# Altium schematic symbol library Maxim Amplifiers and Comparators.SchLib: 420 symbols (part 6 of 16)
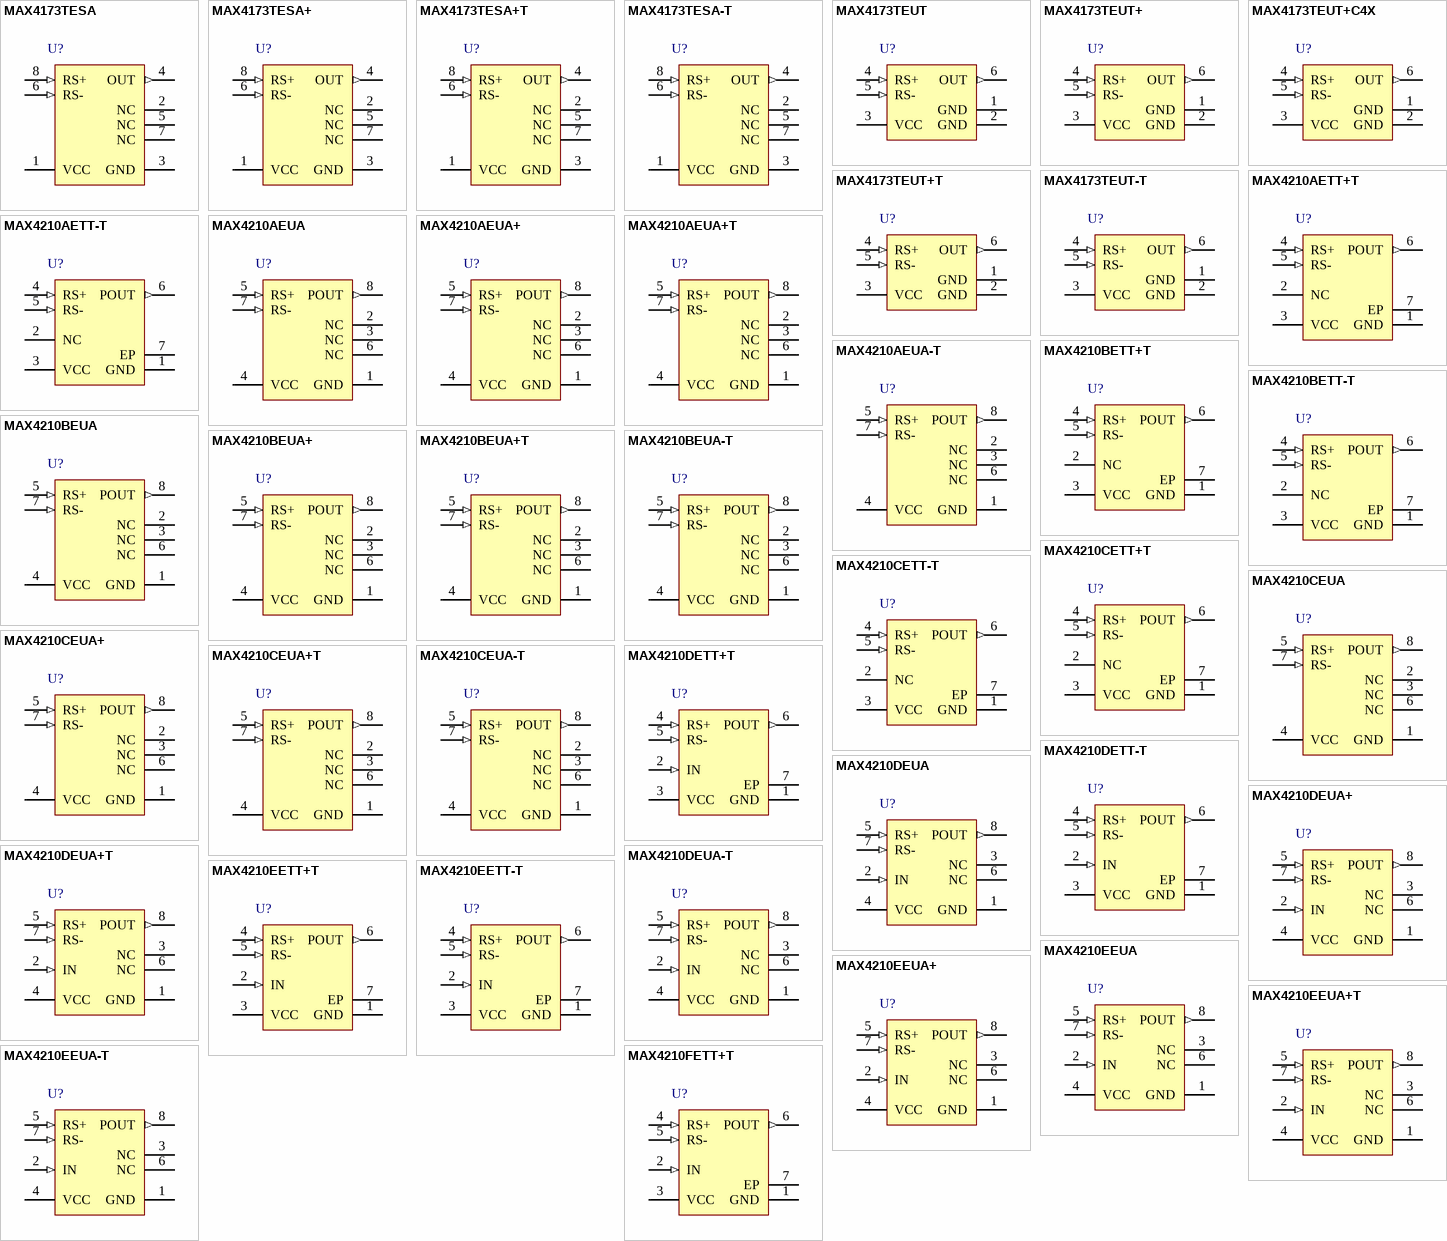
[diagram p15: symbols MAX4173TESA to MAX4210FETT+T]

## MAX4210AETT+T
designator U?
High-Side, Power + Current Monitor, 16.67 V / V Gain, -40 to 85 degC, 6-Pin SON (T633+2), Pb-Free, Tape and Reel; PartNumber: MAX4210AETT+T; Bi-Dir. Curr. Sense: No; Gain: 16.67 V/V, 25 V/V ,40.96 V/V; DatasheetVersion: Rev. 1; PackageVersion: Rev. J, 08/2009; PackageReference: T633+2; PackageDescription: 6-Pin Plastic Very Very Thin Dual Flatpack No Leads, Exposed Pad, Body 3 x 3 mm, Exposed Pad 2.3 x 1.5 mm, Pitch 0.95 mm; Supplier 1: Digi-Key; Supplier Part Number 1: MAX4210AETT+T-ND; Supplier 2: Mouser; Supplier Part Number 2: 700-MAX4210AETTT; Mounting Technology: Surface Mount; Code_JEDEC: MO-229; ComponentLink1Description: Manufacturer URL; ComponentLink1URL: http://www.maximintegrated.com/; ComponentLink2Description: Datasheet; ComponentLink2URL: http://datasheets.maximintegrated.com/en/ds/MAX4210-MAX4211.pdf; ComponentLink3Description: Package Specification; ComponentLink3URL: http://pdfserv.maximintegrated.com/package_dwgs/21-0137.PDF
footprint MAXM-T633+2_V (SON, 6-Leads, Body 3x3mm, Pitch 0.95mm, Thermal Pad 2.3X1.5mm)
pins: 1 GND (power) "Ground", 2 NC "No Connection. Not internally connected.", 3 VCC (power) "Power-Supply Voltage. Connect a 0.1uF bypass capacitor from VCC to GND.", 4 RS+ (in) "Power Connection to External-Sense Resistor and Internal Resistor-Divider", 5 RS- (in) "Load-Side Connection for External-Sense Resistor", 6 POUT (out) "Power Output Voltage. Voltage output proportional to source power (input voltage multiplied by load current).", 7 EP (power) "Exposed Paddle. EP is internally connected to GND."

## MAX4210AETT-T
designator U?
High-Side, Power + Current Monitor, 16.67 V / V Gain, -40 to 85 degC, 6-Pin SON (T633-2), Tape and Reel; PartNumber: MAX4210AETT-T; Bi-Dir. Curr. Sense: No; Gain: 16.67 V/V, 25 V/V ,40.96 V/V; DatasheetVersion: Rev. 1; PackageVersion: Rev. J, 08/2009; PackageReference: T633-2; PackageDescription: 6-Pin Plastic Very Very Thin Dual Flatpack No Leads, Exposed Pad, Body 3 x 3 mm, Exposed Pad 2.3 x 1.5 mm, Pitch 0.95 mm; Supplier 1: Digi-Key; Supplier Part Number 1: MAX4210AETT-T-ND; Supplier 2: Mouser; Supplier Part Number 2: 700-MAX4210AETT-T-NR; Mounting Technology: Surface Mount; Code_JEDEC: MO-229; ComponentLink1Description: Manufacturer URL; ComponentLink1URL: http://www.maximintegrated.com/; ComponentLink2Description: Datasheet; ComponentLink2URL: http://datasheets.maximintegrated.com/en/ds/MAX4210-MAX4211.pdf; ComponentLink3Description: Package Specification; ComponentLink3URL: http://pdfserv.maximintegrated.com/package_dwgs/21-0137.PDF
footprint MAXM-T633-2_V (SON, 6-Leads, Body 3x3mm, Pitch 0.95mm, Thermal Pad 1.5x2.3mm)
pins: 1 GND (power) "Ground", 2 NC "No Connection. Not internally connected.", 3 VCC (power) "Power-Supply Voltage. Connect a 0.1uF bypass capacitor from VCC to GND.", 4 RS+ (in) "Power Connection to External-Sense Resistor and Internal Resistor-Divider", 5 RS- (in) "Load-Side Connection for External-Sense Resistor", 6 POUT (out) "Power Output Voltage. Voltage output proportional to source power (input voltage multiplied by load current).", 7 EP (power) "Exposed Paddle. EP is internally connected to GND."

## MAX4210AEUA
designator U?
High-Side, Power + Current Monitor, 16.67 V / V Gain, -40 to 85 degC, 8-Pin SOP (U8-1); PartNumber: MAX4210AEUA; Bi-Dir. Curr. Sense: No; Gain: 16.67 V/V, 25 V/V ,40.96 V/V; DatasheetVersion: Rev. 1; PackageVersion: Rev. L, 08/2009; PackageReference: U8-1; PackageDescription: 8-Pin Micro-MAX, Thin Shrink Small-Outline (U8-1), Body 3 x 3 mm, Pitch 0.65mm; Supplier 1: Digi-Key; Supplier Part Number 1: MAX4210AEUA-ND; Supplier 2: Mouser; Supplier Part Number 2: 700-MAX4210AEUA-NR; Mounting Technology: Surface Mount; Code_JEDEC: MO-187; ComponentLink1Description: Manufacturer URL; ComponentLink1URL: http://www.maximintegrated.com/; ComponentLink2Description: Datasheet; ComponentLink2URL: http://datasheets.maximintegrated.com/en/ds/MAX4210-MAX4211.pdf; ComponentLink3Description: Package Specification; ComponentLink3URL: http://pdfserv.maximintegrated.com/package_dwgs/21-0036.PDF
footprint MAXM-U8-1_N (SOP, 8-Leads, Body 3x3mm, Pitch 0.65mm, IPC Medium Density)
footprint MAXM-U8-1_L (SOP, 8-Leads, Body 3x3mm, Pitch 0.65mm, IPC High Density)
footprint MAXM-U8-1_M (SOP, 8-Leads, Body 3x3mm, Pitch 0.65mm, IPC Low Density)
pins: 1 GND (power) "Ground", 2 NC "No Connection. Not internally connected.", 3 NC "No Connection. Not internally connected.", 4 VCC (power) "Power-Supply Voltage. Connect a 0.1uF bypass capacitor from VCC to GND", 5 RS+ (in) "Power Connection to External-Sense Resistor and Internal Resistor-Divider", 6 NC "No Connection. Not internally connected.", 7 RS- (in) "Load-Side Connection for External-Sense Resistor", 8 POUT (out) "Power Output Voltage. Voltage output proportional to source power (input voltage multiplied by load current)."

## MAX4210AEUA+
designator U?
High-Side, Power + Current Monitor, 16.67 V / V Gain, -40 to 85 degC, 8-Pin SOP (U8+1), Pb-Free; PartNumber: MAX4210AEUA+; Bi-Dir. Curr. Sense: No; Gain: 16.67 V/V, 25 V/V ,40.96 V/V; DatasheetVersion: Rev. 1; PackageVersion: Rev. L, 08/2009; PackageReference: U8+1; PackageDescription: 8-Pin Micro-MAX, Thin Shrink Small-Outline (U8+1), Body 3 x 3 mm, Pitch 0.65 mm; Supplier 1: Digi-Key; Supplier Part Number 1: MAX4210AEUA+-ND; Supplier 2: Mouser; Supplier Part Number 2: 700-MAX4210AEUA; Mounting Technology: Surface Mount; Code_JEDEC: MO-187; ComponentLink1Description: Manufacturer URL; ComponentLink1URL: http://www.maximintegrated.com/; ComponentLink2Description: Datasheet; ComponentLink2URL: http://datasheets.maximintegrated.com/en/ds/MAX4210-MAX4211.pdf; ComponentLink3Description: Package Specification; ComponentLink3URL: http://pdfserv.maximintegrated.com/package_dwgs/21-0036.PDF
footprint MAXM-U8+1_N (SOP, 8-Leads, Body 3x3mm, Pitch 0.65mm, IPC Medium Density)
footprint MAXM-U8+1_L (SOP, 8-Leads, Body 3x3mm, Pitch 0.65mm, IPC High Density)
footprint MAXM-U8+1_M (SOP, 8-Leads, Body 3x3mm, Pitch 0.65mm, IPC Low Density)
pins: 1 GND (power) "Ground", 2 NC "No Connection. Not internally connected.", 3 NC "No Connection. Not internally connected.", 4 VCC (power) "Power-Supply Voltage. Connect a 0.1uF bypass capacitor from VCC to GND", 5 RS+ (in) "Power Connection to External-Sense Resistor and Internal Resistor-Divider", 6 NC "No Connection. Not internally connected.", 7 RS- (in) "Load-Side Connection for External-Sense Resistor", 8 POUT (out) "Power Output Voltage. Voltage output proportional to source power (input voltage multiplied by load current)."

## MAX4210AEUA+T
designator U?
High-Side, Power + Current Monitor, 16.67 V / V Gain, -40 to 85 degC, 8-Pin SOP (U8+1), Pb-Free, Tape and Reel; PartNumber: MAX4210AEUA+T; Bi-Dir. Curr. Sense: No; Gain: 16.67 V/V, 25 V/V ,40.96 V/V; DatasheetVersion: Rev. 1; PackageVersion: Rev. L, 08/2009; PackageReference: U8+1; PackageDescription: 8-Pin Micro-MAX, Thin Shrink Small-Outline (U8+1), Body 3 x 3 mm, Pitch 0.65 mm; Supplier 1: Digi-Key; Supplier Part Number 1: MAX4210AEUA+T-ND; Supplier 2: Mouser; Supplier Part Number 2: 700-MAX4210AEUAT; Mounting Technology: Surface Mount; Code_JEDEC: MO-187; ComponentLink1Description: Manufacturer URL; ComponentLink1URL: http://www.maximintegrated.com/; ComponentLink2Description: Datasheet; ComponentLink2URL: http://datasheets.maximintegrated.com/en/ds/MAX4210-MAX4211.pdf; ComponentLink3Description: Package Specification; ComponentLink3URL: http://pdfserv.maximintegrated.com/package_dwgs/21-0036.PDF
footprint MAXM-U8+1_N (SOP, 8-Leads, Body 3x3mm, Pitch 0.65mm, IPC Medium Density)
footprint MAXM-U8+1_L (SOP, 8-Leads, Body 3x3mm, Pitch 0.65mm, IPC High Density)
footprint MAXM-U8+1_M (SOP, 8-Leads, Body 3x3mm, Pitch 0.65mm, IPC Low Density)
pins: 1 GND (power) "Ground", 2 NC "No Connection. Not internally connected.", 3 NC "No Connection. Not internally connected.", 4 VCC (power) "Power-Supply Voltage. Connect a 0.1uF bypass capacitor from VCC to GND", 5 RS+ (in) "Power Connection to External-Sense Resistor and Internal Resistor-Divider", 6 NC "No Connection. Not internally connected.", 7 RS- (in) "Load-Side Connection for External-Sense Resistor", 8 POUT (out) "Power Output Voltage. Voltage output proportional to source power (input voltage multiplied by load current)."

## MAX4210AEUA-T
designator U?
High-Side, Power + Current Monitor, 16.67 V / V Gain, -40 to 85 degC, 8-Pin SOP (U8-1), Tape and Reel; Generic Part Number: MAX4210; PartNumber: MAX4210AEUA-T; Bi-Dir. Curr. Sense: No; Gain: 16.67 V/V, 25 V/V ,40.96 V/V; DatasheetVersion: Rev. 1; PackageVersion: Rev. L, 08/2009; PackageReference: U8-1; PackageDescription: 8-Pin Micro-MAX, Thin Shrink Small-Outline (U8-1), Body 3 x 3 mm, Pitch 0.65mm; Supplier 1: Digi-Key; Supplier Part Number 1: MAX4210AEUA-T-ND; Supplier 2: Mouser; Supplier Part Number 2: 700-MAX4210AEUA-T-NR; Packing: Tape and Reel; Mounting Technology: Surface Mount; Code_JEDEC: MO-187; ComponentLink1Description: Manufacturer URL; ComponentLink1URL: http://www.maximintegrated.com/; ComponentLink2Description: Datasheet; ComponentLink2URL: http://datasheets.maximintegrated.com/en/ds/MAX4210-MAX4211.pdf; ComponentLink3Description: Package Specification; ComponentLink3URL: http://pdfserv.maximintegrated.com/package_dwgs/21-0036.PDF
footprint MAXM-U8-1_N (SOP, 8-Leads, Body 3x3mm, Pitch 0.65mm, IPC Medium Density)
footprint MAXM-U8-1_L (SOP, 8-Leads, Body 3x3mm, Pitch 0.65mm, IPC High Density)
footprint MAXM-U8-1_M (SOP, 8-Leads, Body 3x3mm, Pitch 0.65mm, IPC Low Density)
pins: 1 GND (power) "Ground", 2 NC "No Connection. Not internally connected.", 3 NC "No Connection. Not internally connected.", 4 VCC (power) "Power-Supply Voltage. Connect a 0.1uF bypass capacitor from VCC to GND", 5 RS+ (in) "Power Connection to External-Sense Resistor and Internal Resistor-Divider", 6 NC "No Connection. Not internally connected.", 7 RS- (in) "Load-Side Connection for External-Sense Resistor", 8 POUT (out) "Power Output Voltage. Voltage output proportional to source power (input voltage multiplied by load current)."

## MAX4210BETT+T
designator U?
High-Side, Power + Current Monitor, 25 V / V Gain, -40 to 85 degC, 6-Pin SON (T633+2), Pb-Free, Tape and Reel; Generic Part Number: MAX4210; PartNumber: MAX4210BETT+T; Bi-Dir. Curr. Sense: No; Gain: 16.67 V/V, 25 V/V ,40.96 V/V; DatasheetVersion: Rev. 1; PackageVersion: Rev. J, 08/2009; PackageReference: T633+2; PackageDescription: 6-Pin Plastic Very Very Thin Dual Flatpack No Leads, Exposed Pad, Body 3 x 3 mm, Exposed Pad 2.3 x 1.5 mm, Pitch 0.95 mm; Supplier 1: Digi-Key; Supplier Part Number 1: MAX4210BETT+T-ND; Supplier 2: Mouser; Supplier Part Number 2: 700-MAX4210BETTT; Packing: Tape and Reel; RoHS: Pb-Free; Mounting Technology: Surface Mount; Code_JEDEC: MO-229; ComponentLink1Description: Manufacturer URL; ComponentLink1URL: http://www.maximintegrated.com/; ComponentLink2Description: Datasheet; ComponentLink2URL: http://datasheets.maximintegrated.com/en/ds/MAX4210-MAX4211.pdf; ComponentLink3Description: Package Specification; ComponentLink3URL: http://pdfserv.maximintegrated.com/package_dwgs/21-0137.PDF
footprint MAXM-T633+2_V (SON, 6-Leads, Body 3x3mm, Pitch 0.95mm, Thermal Pad 2.3X1.5mm)
pins: 1 GND (power) "Ground", 2 NC "No Connection. Not internally connected.", 3 VCC (power) "Power-Supply Voltage. Connect a 0.1uF bypass capacitor from VCC to GND.", 4 RS+ (in) "Power Connection to External-Sense Resistor and Internal Resistor-Divider", 5 RS- (in) "Load-Side Connection for External-Sense Resistor", 6 POUT (out) "Power Output Voltage. Voltage output proportional to source power (input voltage multiplied by load current).", 7 EP (power) "Exposed Paddle. EP is internally connected to GND."

## MAX4210BETT-T
designator U?
High-Side, Power + Current Monitor, 25 V / V Gain, -40 to 85 degC, 6-Pin SON (T633-2), Tape and Reel; Generic Part Number: MAX4210; PartNumber: MAX4210BETT-T; Bi-Dir. Curr. Sense: No; Gain: 16.67 V/V, 25 V/V ,40.96 V/V; DatasheetVersion: Rev. 1; PackageVersion: Rev. J, 08/2009; PackageReference: T633-2; PackageDescription: 6-Pin Plastic Very Very Thin Dual Flatpack No Leads, Exposed Pad, Body 3 x 3 mm, Exposed Pad 2.3 x 1.5 mm, Pitch 0.95 mm; Supplier 1: Digi-Key; Supplier Part Number 1: MAX4210BETT-T-ND; Supplier 2: Mouser; Supplier Part Number 2: 700-MAX4210BETT-T-NR; Packing: Tape and Reel; Mounting Technology: Surface Mount; Code_JEDEC: MO-229; ComponentLink1Description: Manufacturer URL; ComponentLink1URL: http://www.maximintegrated.com/; ComponentLink2Description: Datasheet; ComponentLink2URL: http://datasheets.maximintegrated.com/en/ds/MAX4210-MAX4211.pdf; ComponentLink3Description: Package Specification; ComponentLink3URL: http://pdfserv.maximintegrated.com/package_dwgs/21-0137.PDF
footprint MAXM-T633-2_V (SON, 6-Leads, Body 3x3mm, Pitch 0.95mm, Thermal Pad 1.5x2.3mm)
pins: 1 GND (power) "Ground", 2 NC "No Connection. Not internally connected.", 3 VCC (power) "Power-Supply Voltage. Connect a 0.1uF bypass capacitor from VCC to GND.", 4 RS+ (in) "Power Connection to External-Sense Resistor and Internal Resistor-Divider", 5 RS- (in) "Load-Side Connection for External-Sense Resistor", 6 POUT (out) "Power Output Voltage. Voltage output proportional to source power (input voltage multiplied by load current).", 7 EP (power) "Exposed Paddle. EP is internally connected to GND."

## MAX4210BEUA
designator U?
High-Side, Power + Current Monitor, 25 V / V Gain, -40 to 85 degC, 8-Pin SOP (U8-1); Generic Part Number: MAX4210; PartNumber: MAX4210BEUA; Bi-Dir. Curr. Sense: No; Gain: 16.67 V/V, 25 V/V ,40.96 V/V; DatasheetVersion: Rev. 1; PackageVersion: Rev. L, 08/2009; PackageReference: U8-1; PackageDescription: 8-Pin Micro-MAX, Thin Shrink Small-Outline (U8-1), Body 3 x 3 mm, Pitch 0.65mm; Supplier 1: Digi-Key; Supplier Part Number 1: MAX4210BEUA-ND; Supplier 2: Mouser; Supplier Part Number 2: 700-MAX4210BEUA-NR; Mounting Technology: Surface Mount; Code_JEDEC: MO-187; ComponentLink1Description: Manufacturer URL; ComponentLink1URL: http://www.maximintegrated.com/; ComponentLink2Description: Datasheet; ComponentLink2URL: http://datasheets.maximintegrated.com/en/ds/MAX4210-MAX4211.pdf; ComponentLink3Description: Package Specification; ComponentLink3URL: http://pdfserv.maximintegrated.com/package_dwgs/21-0036.PDF
footprint MAXM-U8-1_N (SOP, 8-Leads, Body 3x3mm, Pitch 0.65mm, IPC Medium Density)
footprint MAXM-U8-1_L (SOP, 8-Leads, Body 3x3mm, Pitch 0.65mm, IPC High Density)
footprint MAXM-U8-1_M (SOP, 8-Leads, Body 3x3mm, Pitch 0.65mm, IPC Low Density)
pins: 1 GND (power) "Ground", 2 NC "No Connection. Not internally connected.", 3 NC "No Connection. Not internally connected.", 4 VCC (power) "Power-Supply Voltage. Connect a 0.1uF bypass capacitor from VCC to GND", 5 RS+ (in) "Power Connection to External-Sense Resistor and Internal Resistor-Divider", 6 NC "No Connection. Not internally connected.", 7 RS- (in) "Load-Side Connection for External-Sense Resistor", 8 POUT (out) "Power Output Voltage. Voltage output proportional to source power (input voltage multiplied by load current)."

## MAX4210BEUA+
designator U?
High-Side, Power + Current Monitor, 25 V / V Gain, -40 to 85 degC, 8-Pin SOP (U8+1), Pb-Free; Generic Part Number: MAX4210; PartNumber: MAX4210BEUA+; Bi-Dir. Curr. Sense: No; Gain: 16.67 V/V, 25 V/V ,40.96 V/V; DatasheetVersion: Rev. 1; PackageVersion: Rev. L, 08/2009; PackageReference: U8+1; PackageDescription: 8-Pin Micro-MAX, Thin Shrink Small-Outline (U8+1), Body 3 x 3 mm, Pitch 0.65 mm; Supplier 1: Digi-Key; Supplier Part Number 1: MAX4210BEUA+-ND; Supplier 2: Mouser; Supplier Part Number 2: 700-MAX4210BEUA; RoHS: Pb-Free; Mounting Technology: Surface Mount; Code_JEDEC: MO-187; ComponentLink1Description: Manufacturer URL; ComponentLink1URL: http://www.maximintegrated.com/; ComponentLink2Description: Datasheet; ComponentLink2URL: http://datasheets.maximintegrated.com/en/ds/MAX4210-MAX4211.pdf; ComponentLink3Description: Package Specification; ComponentLink3URL: http://pdfserv.maximintegrated.com/package_dwgs/21-0036.PDF
footprint MAXM-U8+1_N (SOP, 8-Leads, Body 3x3mm, Pitch 0.65mm, IPC Medium Density)
footprint MAXM-U8+1_L (SOP, 8-Leads, Body 3x3mm, Pitch 0.65mm, IPC High Density)
footprint MAXM-U8+1_M (SOP, 8-Leads, Body 3x3mm, Pitch 0.65mm, IPC Low Density)
pins: 1 GND (power) "Ground", 2 NC "No Connection. Not internally connected.", 3 NC "No Connection. Not internally connected.", 4 VCC (power) "Power-Supply Voltage. Connect a 0.1uF bypass capacitor from VCC to GND", 5 RS+ (in) "Power Connection to External-Sense Resistor and Internal Resistor-Divider", 6 NC "No Connection. Not internally connected.", 7 RS- (in) "Load-Side Connection for External-Sense Resistor", 8 POUT (out) "Power Output Voltage. Voltage output proportional to source power (input voltage multiplied by load current)."

## MAX4210BEUA+T
designator U?
High-Side, Power + Current Monitor, 25 V / V Gain, -40 to 85 degC, 8-Pin SOP (U8+1), Pb-Free, Tape and Reel; Generic Part Number: MAX4210; PartNumber: MAX4210BEUA+T; Bi-Dir. Curr. Sense: No; Gain: 16.67 V/V, 25 V/V ,40.96 V/V; DatasheetVersion: Rev. 1; PackageVersion: Rev. L, 08/2009; PackageReference: U8+1; PackageDescription: 8-Pin Micro-MAX, Thin Shrink Small-Outline (U8+1), Body 3 x 3 mm, Pitch 0.65 mm; Supplier 1: Digi-Key; Supplier Part Number 1: MAX4210BEUA+T-ND; Supplier 2: Mouser; Supplier Part Number 2: 700-MAX4210BEUAT; Packing: Tape and Reel; RoHS: Pb-Free; Mounting Technology: Surface Mount; Code_JEDEC: MO-187; ComponentLink1Description: Manufacturer URL; ComponentLink1URL: http://www.maximintegrated.com/; ComponentLink2Description: Datasheet; ComponentLink2URL: http://datasheets.maximintegrated.com/en/ds/MAX4210-MAX4211.pdf; ComponentLink3Description: Package Specification; ComponentLink3URL: http://pdfserv.maximintegrated.com/package_dwgs/21-0036.PDF
footprint MAXM-U8+1_N (SOP, 8-Leads, Body 3x3mm, Pitch 0.65mm, IPC Medium Density)
footprint MAXM-U8+1_L (SOP, 8-Leads, Body 3x3mm, Pitch 0.65mm, IPC High Density)
footprint MAXM-U8+1_M (SOP, 8-Leads, Body 3x3mm, Pitch 0.65mm, IPC Low Density)
pins: 1 GND (power) "Ground", 2 NC "No Connection. Not internally connected.", 3 NC "No Connection. Not internally connected.", 4 VCC (power) "Power-Supply Voltage. Connect a 0.1uF bypass capacitor from VCC to GND", 5 RS+ (in) "Power Connection to External-Sense Resistor and Internal Resistor-Divider", 6 NC "No Connection. Not internally connected.", 7 RS- (in) "Load-Side Connection for External-Sense Resistor", 8 POUT (out) "Power Output Voltage. Voltage output proportional to source power (input voltage multiplied by load current)."

## MAX4210BEUA-T
designator U?
High-Side, Power + Current Monitor, 25 V / V Gain, -40 to 85 degC, 8-Pin SOP (U8-1), Tape and Reel; Generic Part Number: MAX4210; PartNumber: MAX4210BEUA-T; Bi-Dir. Curr. Sense: No; Gain: 16.67 V/V, 25 V/V ,40.96 V/V; DatasheetVersion: Rev. 1; PackageVersion: Rev. L, 08/2009; PackageReference: U8-1; PackageDescription: 8-Pin Micro-MAX, Thin Shrink Small-Outline (U8-1), Body 3 x 3 mm, Pitch 0.65mm; Supplier 1: Digi-Key; Supplier Part Number 1: MAX4210BEUA-T-ND; Supplier 2: Mouser; Supplier Part Number 2: 700-MAX4210BEUA-T-NR; Packing: Tape and Reel; Mounting Technology: Surface Mount; Code_JEDEC: MO-187; ComponentLink1Description: Manufacturer URL; ComponentLink1URL: http://www.maximintegrated.com/; ComponentLink2Description: Datasheet; ComponentLink2URL: http://datasheets.maximintegrated.com/en/ds/MAX4210-MAX4211.pdf; ComponentLink3Description: Package Specification; ComponentLink3URL: http://pdfserv.maximintegrated.com/package_dwgs/21-0036.PDF
footprint MAXM-U8-1_N (SOP, 8-Leads, Body 3x3mm, Pitch 0.65mm, IPC Medium Density)
footprint MAXM-U8-1_L (SOP, 8-Leads, Body 3x3mm, Pitch 0.65mm, IPC High Density)
footprint MAXM-U8-1_M (SOP, 8-Leads, Body 3x3mm, Pitch 0.65mm, IPC Low Density)
pins: 1 GND (power) "Ground", 2 NC "No Connection. Not internally connected.", 3 NC "No Connection. Not internally connected.", 4 VCC (power) "Power-Supply Voltage. Connect a 0.1uF bypass capacitor from VCC to GND", 5 RS+ (in) "Power Connection to External-Sense Resistor and Internal Resistor-Divider", 6 NC "No Connection. Not internally connected.", 7 RS- (in) "Load-Side Connection for External-Sense Resistor", 8 POUT (out) "Power Output Voltage. Voltage output proportional to source power (input voltage multiplied by load current)."

## MAX4210CETT+T
designator U?
High-Side, Power + Current Monitor, 40.96 V / V Gain, -40 to 85 degC, 6-Pin SON (T633+2), Pb-Free, Tape and Reel; Generic Part Number: MAX4210; PartNumber: MAX4210CETT+T; Bi-Dir. Curr. Sense: No; Gain: 16.67 V/V, 25 V/V ,40.96 V/V; DatasheetVersion: Rev. 1; PackageVersion: Rev. J, 08/2009; PackageReference: T633+2; PackageDescription: 6-Pin Plastic Very Very Thin Dual Flatpack No Leads, Exposed Pad, Body 3 x 3 mm, Exposed Pad 2.3 x 1.5 mm, Pitch 0.95 mm; Supplier 1: Digi-Key; Supplier Part Number 1: MAX4210CETT+T-ND; Supplier 2: Mouser; Supplier Part Number 2: 700-MAX4210CETTT; Packing: Tape and Reel; RoHS: Pb-Free; Mounting Technology: Surface Mount; Code_JEDEC: MO-229; ComponentLink1Description: Manufacturer URL; ComponentLink1URL: http://www.maximintegrated.com/; ComponentLink2Description: Datasheet; ComponentLink2URL: http://datasheets.maximintegrated.com/en/ds/MAX4210-MAX4211.pdf; ComponentLink3Description: Package Specification; ComponentLink3URL: http://pdfserv.maximintegrated.com/package_dwgs/21-0137.PDF
footprint MAXM-T633+2_V (SON, 6-Leads, Body 3x3mm, Pitch 0.95mm, Thermal Pad 2.3X1.5mm)
pins: 1 GND (power) "Ground", 2 NC "No Connection. Not internally connected.", 3 VCC (power) "Power-Supply Voltage. Connect a 0.1uF bypass capacitor from VCC to GND.", 4 RS+ (in) "Power Connection to External-Sense Resistor and Internal Resistor-Divider", 5 RS- (in) "Load-Side Connection for External-Sense Resistor", 6 POUT (out) "Power Output Voltage. Voltage output proportional to source power (input voltage multiplied by load current).", 7 EP (power) "Exposed Paddle. EP is internally connected to GND."

## MAX4210CETT-T
designator U?
High-Side, Power + Current Monitor, 40.96 V / V Gain, -40 to 85 degC, 6-Pin SON (T633-2), Tape and Reel; Generic Part Number: MAX4210; PartNumber: MAX4210CETT-T; Bi-Dir. Curr. Sense: No; Gain: 16.67 V/V, 25 V/V ,40.96 V/V; DatasheetVersion: Rev. 1; PackageVersion: Rev. J, 08/2009; PackageReference: T633-2; PackageDescription: 6-Pin Plastic Very Very Thin Dual Flatpack No Leads, Exposed Pad, Body 3 x 3 mm, Exposed Pad 2.3 x 1.5 mm, Pitch 0.95 mm; Supplier 1: Digi-Key; Supplier Part Number 1: MAX4210CETT-T-ND; Supplier 2: Mouser; Supplier Part Number 2: 700-MAX4210CETT-T-NR; Packing: Tape and Reel; Mounting Technology: Surface Mount; Code_JEDEC: MO-229; ComponentLink1Description: Manufacturer URL; ComponentLink1URL: http://www.maximintegrated.com/; ComponentLink2Description: Datasheet; ComponentLink2URL: http://datasheets.maximintegrated.com/en/ds/MAX4210-MAX4211.pdf; ComponentLink3Description: Package Specification; ComponentLink3URL: http://pdfserv.maximintegrated.com/package_dwgs/21-0137.PDF
footprint MAXM-T633-2_V (SON, 6-Leads, Body 3x3mm, Pitch 0.95mm, Thermal Pad 1.5x2.3mm)
pins: 1 GND (power) "Ground", 2 NC "No Connection. Not internally connected.", 3 VCC (power) "Power-Supply Voltage. Connect a 0.1uF bypass capacitor from VCC to GND.", 4 RS+ (in) "Power Connection to External-Sense Resistor and Internal Resistor-Divider", 5 RS- (in) "Load-Side Connection for External-Sense Resistor", 6 POUT (out) "Power Output Voltage. Voltage output proportional to source power (input voltage multiplied by load current).", 7 EP (power) "Exposed Paddle. EP is internally connected to GND."

## MAX4210CEUA
designator U?
High-Side, Power + Current Monitor, 40.96 V / V Gain, -40 to 85 degC, 8-Pin SOP (U8-1); Generic Part Number: MAX4210; PartNumber: MAX4210CEUA; Bi-Dir. Curr. Sense: No; Gain: 16.67 V/V, 25 V/V ,40.96 V/V; DatasheetVersion: Rev. 1; PackageVersion: Rev. L, 08/2009; PackageReference: U8-1; PackageDescription: 8-Pin Micro-MAX, Thin Shrink Small-Outline (U8-1), Body 3 x 3 mm, Pitch 0.65mm; Supplier 1: Digi-Key; Supplier Part Number 1: MAX4210CEUA-ND; Supplier 2: Mouser; Supplier Part Number 2: 700-MAX4210CEUA-NR; Mounting Technology: Surface Mount; Code_JEDEC: MO-187; ComponentLink1Description: Manufacturer URL; ComponentLink1URL: http://www.maximintegrated.com/; ComponentLink2Description: Datasheet; ComponentLink2URL: http://datasheets.maximintegrated.com/en/ds/MAX4210-MAX4211.pdf; ComponentLink3Description: Package Specification; ComponentLink3URL: http://pdfserv.maximintegrated.com/package_dwgs/21-0036.PDF
footprint MAXM-U8-1_N (SOP, 8-Leads, Body 3x3mm, Pitch 0.65mm, IPC Medium Density)
footprint MAXM-U8-1_L (SOP, 8-Leads, Body 3x3mm, Pitch 0.65mm, IPC High Density)
footprint MAXM-U8-1_M (SOP, 8-Leads, Body 3x3mm, Pitch 0.65mm, IPC Low Density)
pins: 1 GND (power) "Ground", 2 NC "No Connection. Not internally connected.", 3 NC "No Connection. Not internally connected.", 4 VCC (power) "Power-Supply Voltage. Connect a 0.1uF bypass capacitor from VCC to GND", 5 RS+ (in) "Power Connection to External-Sense Resistor and Internal Resistor-Divider", 6 NC "No Connection. Not internally connected.", 7 RS- (in) "Load-Side Connection for External-Sense Resistor", 8 POUT (out) "Power Output Voltage. Voltage output proportional to source power (input voltage multiplied by load current)."

## MAX4210CEUA+
designator U?
High-Side, Power + Current Monitor, 40.96 V / V Gain, -40 to 85 degC, 8-Pin SOP (U8+1), Pb-Free; Generic Part Number: MAX4210; PartNumber: MAX4210CEUA+; Bi-Dir. Curr. Sense: No; Gain: 16.67 V/V, 25 V/V ,40.96 V/V; DatasheetVersion: Rev. 1; PackageVersion: Rev. L, 08/2009; PackageReference: U8+1; PackageDescription: 8-Pin Micro-MAX, Thin Shrink Small-Outline (U8+1), Body 3 x 3 mm, Pitch 0.65 mm; Supplier 1: Digi-Key; Supplier Part Number 1: MAX4210CEUA+-ND; Supplier 2: Mouser; Supplier Part Number 2: 700-MAX4210CEUA; RoHS: Pb-Free; Mounting Technology: Surface Mount; Code_JEDEC: MO-187; ComponentLink1Description: Manufacturer URL; ComponentLink1URL: http://www.maximintegrated.com/; ComponentLink2Description: Datasheet; ComponentLink2URL: http://datasheets.maximintegrated.com/en/ds/MAX4210-MAX4211.pdf; ComponentLink3Description: Package Specification; ComponentLink3URL: http://pdfserv.maximintegrated.com/package_dwgs/21-0036.PDF
footprint MAXM-U8+1_N (SOP, 8-Leads, Body 3x3mm, Pitch 0.65mm, IPC Medium Density)
footprint MAXM-U8+1_L (SOP, 8-Leads, Body 3x3mm, Pitch 0.65mm, IPC High Density)
footprint MAXM-U8+1_M (SOP, 8-Leads, Body 3x3mm, Pitch 0.65mm, IPC Low Density)
pins: 1 GND (power) "Ground", 2 NC "No Connection. Not internally connected.", 3 NC "No Connection. Not internally connected.", 4 VCC (power) "Power-Supply Voltage. Connect a 0.1uF bypass capacitor from VCC to GND", 5 RS+ (in) "Power Connection to External-Sense Resistor and Internal Resistor-Divider", 6 NC "No Connection. Not internally connected.", 7 RS- (in) "Load-Side Connection for External-Sense Resistor", 8 POUT (out) "Power Output Voltage. Voltage output proportional to source power (input voltage multiplied by load current)."

## MAX4210CEUA+T
designator U?
High-Side, Power + Current Monitor, 40.96 V / V Gain, -40 to 85 degC, 8-Pin SOP (U8+1), Pb-Free, Tape and Reel; Generic Part Number: MAX4210; PartNumber: MAX4210CEUA+T; Bi-Dir. Curr. Sense: No; Gain: 16.67 V/V, 25 V/V ,40.96 V/V; DatasheetVersion: Rev. 1; PackageVersion: Rev. L, 08/2009; PackageReference: U8+1; PackageDescription: 8-Pin Micro-MAX, Thin Shrink Small-Outline (U8+1), Body 3 x 3 mm, Pitch 0.65 mm; Supplier 1: Digi-Key; Supplier Part Number 1: MAX4210CEUA+T-ND; Supplier 2: Mouser; Supplier Part Number 2: 700-MAX4210CEUAT; Packing: Tape and Reel; RoHS: Pb-Free; Mounting Technology: Surface Mount; Code_JEDEC: MO-187; ComponentLink1Description: Manufacturer URL; ComponentLink1URL: http://www.maximintegrated.com/; ComponentLink2Description: Datasheet; ComponentLink2URL: http://datasheets.maximintegrated.com/en/ds/MAX4210-MAX4211.pdf; ComponentLink3Description: Package Specification; ComponentLink3URL: http://pdfserv.maximintegrated.com/package_dwgs/21-0036.PDF
footprint MAXM-U8+1_N (SOP, 8-Leads, Body 3x3mm, Pitch 0.65mm, IPC Medium Density)
footprint MAXM-U8+1_L (SOP, 8-Leads, Body 3x3mm, Pitch 0.65mm, IPC High Density)
footprint MAXM-U8+1_M (SOP, 8-Leads, Body 3x3mm, Pitch 0.65mm, IPC Low Density)
pins: 1 GND (power) "Ground", 2 NC "No Connection. Not internally connected.", 3 NC "No Connection. Not internally connected.", 4 VCC (power) "Power-Supply Voltage. Connect a 0.1uF bypass capacitor from VCC to GND", 5 RS+ (in) "Power Connection to External-Sense Resistor and Internal Resistor-Divider", 6 NC "No Connection. Not internally connected.", 7 RS- (in) "Load-Side Connection for External-Sense Resistor", 8 POUT (out) "Power Output Voltage. Voltage output proportional to source power (input voltage multiplied by load current)."

## MAX4210CEUA-T
designator U?
High-Side, Power + Current Monitor, 40.96 V / V Gain, -40 to 85 degC, 8-Pin SOP (U8-1), Tape and Reel; Generic Part Number: MAX4210; PartNumber: MAX4210CEUA-T; Bi-Dir. Curr. Sense: No; Gain: 16.67 V/V, 25 V/V ,40.96 V/V; DatasheetVersion: Rev. 1; PackageVersion: Rev. L, 08/2009; PackageReference: U8-1; PackageDescription: 8-Pin Micro-MAX, Thin Shrink Small-Outline (U8-1), Body 3 x 3 mm, Pitch 0.65mm; Supplier 1: Digi-Key; Supplier Part Number 1: MAX4210CEUA-T-ND; Supplier 2: Mouser; Supplier Part Number 2: 700-MAX4210CEUA-T-NR; Packing: Tape and Reel; Mounting Technology: Surface Mount; Code_JEDEC: MO-187; ComponentLink1Description: Manufacturer URL; ComponentLink1URL: http://www.maximintegrated.com/; ComponentLink2Description: Datasheet; ComponentLink2URL: http://datasheets.maximintegrated.com/en/ds/MAX4210-MAX4211.pdf; ComponentLink3Description: Package Specification; ComponentLink3URL: http://pdfserv.maximintegrated.com/package_dwgs/21-0036.PDF
footprint MAXM-U8-1_N (SOP, 8-Leads, Body 3x3mm, Pitch 0.65mm, IPC Medium Density)
footprint MAXM-U8-1_L (SOP, 8-Leads, Body 3x3mm, Pitch 0.65mm, IPC High Density)
footprint MAXM-U8-1_M (SOP, 8-Leads, Body 3x3mm, Pitch 0.65mm, IPC Low Density)
pins: 1 GND (power) "Ground", 2 NC "No Connection. Not internally connected.", 3 NC "No Connection. Not internally connected.", 4 VCC (power) "Power-Supply Voltage. Connect a 0.1uF bypass capacitor from VCC to GND", 5 RS+ (in) "Power Connection to External-Sense Resistor and Internal Resistor-Divider", 6 NC "No Connection. Not internally connected.", 7 RS- (in) "Load-Side Connection for External-Sense Resistor", 8 POUT (out) "Power Output Voltage. Voltage output proportional to source power (input voltage multiplied by load current)."

## MAX4210DETT+T
designator U?
High-Side, Power + Current Monitor, 40.96 V / V Gain, -40 to 85 degC, 6-Pin SON (T633+2), Pb-Free, Tape and Reel; Generic Part Number: MAX4210; PartNumber: MAX4210DETT+T; Bi-Dir. Curr. Sense: No; Gain: 16.67 V/V, 25 V/V ,40.96 V/V; DatasheetVersion: Rev. 1; PackageVersion: Rev. J, 08/2009; PackageReference: T633+2; PackageDescription: 6-Pin Plastic Very Very Thin Dual Flatpack No Leads, Exposed Pad, Body 3 x 3 mm, Exposed Pad 2.3 x 1.5 mm, Pitch 0.95 mm; Supplier 1: Digi-Key; Supplier Part Number 1: MAX4210DETT+T-ND; Supplier 2: Mouser; Supplier Part Number 2: 700-MAX4210DETTT; Packing: Tape and Reel; RoHS: Pb-Free; Mounting Technology: Surface Mount; Code_JEDEC: MO-229; ComponentLink1Description: Manufacturer URL; ComponentLink1URL: http://www.maximintegrated.com/; ComponentLink2Description: Datasheet; ComponentLink2URL: http://datasheets.maximintegrated.com/en/ds/MAX4210-MAX4211.pdf; ComponentLink3Description: Package Specification; ComponentLink3URL: http://pdfserv.maximintegrated.com/package_dwgs/21-0137.PDF
footprint MAXM-T633+2_V (SON, 6-Leads, Body 3x3mm, Pitch 0.95mm, Thermal Pad 2.3X1.5mm)
pins: 1 GND (power) "Ground", 2 IN (in) "Multiplier Input Voltage. Voltage input for internal multiplier.", 3 VCC (power) "Power-Supply Voltage. Connect a 0.1uF bypass capacitor from VCC to GND.", 4 RS+ (in) "Power Connection to External-Sense Resistor", 5 RS- (in) "Load-Side Connection for External-Sense Resistor", 6 POUT (out) "Power Output Voltage. Voltage output proportional to source power (input voltage multiplied by load current).", 7 EP (power) "Exposed Paddle. EP is internally connected to GND."

## MAX4210DETT-T
designator U?
High-Side, Power + Current Monitor, 16.67 V / V Gain, -40 to 85 degC, 6-Pin SON (T633-2), Tape and Reel; Generic Part Number: MAX4210; PartNumber: MAX4210DETT-T; Bi-Dir. Curr. Sense: No; Gain: 16.67 V/V, 25 V/V ,40.96 V/V; DatasheetVersion: Rev. 1; PackageVersion: Rev. J, 08/2009; PackageReference: T633-2; PackageDescription: 6-Pin Plastic Very Very Thin Dual Flatpack No Leads, Exposed Pad, Body 3 x 3 mm, Exposed Pad 2.3 x 1.5 mm, Pitch 0.95 mm; Supplier 1: Digi-Key; Supplier Part Number 1: MAX4210DETT-T-ND; Supplier 2: Mouser; Supplier Part Number 2: 700-MAX4210DETT-T-NR; Packing: Tape and Reel; Mounting Technology: Surface Mount; Code_JEDEC: MO-229; ComponentLink1Description: Manufacturer URL; ComponentLink1URL: http://www.maximintegrated.com/; ComponentLink2Description: Datasheet; ComponentLink2URL: http://datasheets.maximintegrated.com/en/ds/MAX4210-MAX4211.pdf; ComponentLink3Description: Package Specification; ComponentLink3URL: http://pdfserv.maximintegrated.com/package_dwgs/21-0137.PDF
footprint MAXM-T633-2_V (SON, 6-Leads, Body 3x3mm, Pitch 0.95mm, Thermal Pad 1.5x2.3mm)
pins: 1 GND (power) "Ground", 2 IN (in) "Multiplier Input Voltage. Voltage input for internal multiplier.", 3 VCC (power) "Power-Supply Voltage. Connect a 0.1uF bypass capacitor from VCC to GND.", 4 RS+ (in) "Power Connection to External-Sense Resistor", 5 RS- (in) "Load-Side Connection for External-Sense Resistor", 6 POUT (out) "Power Output Voltage. Voltage output proportional to source power (input voltage multiplied by load current).", 7 EP (power) "Exposed Paddle. EP is internally connected to GND."

## MAX4210DEUA
designator U?
High-Side, Power + Current Monitor, 16.67 V / V Gain, -40 to 85 degC, 8-Pin SOP (U8-1); Generic Part Number: MAX4210; PartNumber: MAX4210DEUA; Bi-Dir. Curr. Sense: No; Gain: 16.67 V/V, 25 V/V ,40.96 V/V; DatasheetVersion: Rev. 1; PackageVersion: Rev. L, 08/2009; PackageReference: U8-1; PackageDescription: 8-Pin Micro-MAX, Thin Shrink Small-Outline (U8-1), Body 3 x 3 mm, Pitch 0.65mm; Supplier 1: Digi-Key; Supplier Part Number 1: MAX4210DEUA-ND; Supplier 2: Mouser; Supplier Part Number 2: 700-MAX4210DEUA-NR; Mounting Technology: Surface Mount; Code_JEDEC: MO-187; ComponentLink1Description: Manufacturer URL; ComponentLink1URL: http://www.maximintegrated.com/; ComponentLink2Description: Datasheet; ComponentLink2URL: http://datasheets.maximintegrated.com/en/ds/MAX4210-MAX4211.pdf; ComponentLink3Description: Package Specification; ComponentLink3URL: http://pdfserv.maximintegrated.com/package_dwgs/21-0036.PDF
footprint MAXM-U8-1_N (SOP, 8-Leads, Body 3x3mm, Pitch 0.65mm, IPC Medium Density)
footprint MAXM-U8-1_L (SOP, 8-Leads, Body 3x3mm, Pitch 0.65mm, IPC High Density)
footprint MAXM-U8-1_M (SOP, 8-Leads, Body 3x3mm, Pitch 0.65mm, IPC Low Density)
pins: 1 GND (power) "Ground", 2 IN (in) "Multiplier Input Voltage. Voltage input for internal multiplier.", 3 NC "No Connection. Not internally connected.", 4 VCC (power) "Power-Supply Voltage. Connect a 0.1uF bypass capacitor from VCC to GND.", 5 RS+ (in) "Power Connection to External-Sense Resistor", 6 NC "No Connection. Not internally connected.", 7 RS- (in) "Load-Side Connection for External-Sense Resistor", 8 POUT (out) "Power Output Voltage. Voltage output proportional to source power (input voltage multiplied by load current)."

## MAX4210DEUA+
designator U?
High-Side, Power + Current Monitor, 16.67 V / V Gain, -40 to 85 degC, 8-Pin SOP (U8+1), Pb-Free; Generic Part Number: MAX4210; PartNumber: MAX4210DEUA+; Bi-Dir. Curr. Sense: No; Gain: 16.67 V/V, 25 V/V ,40.96 V/V; DatasheetVersion: Rev. 1; PackageVersion: Rev. L, 08/2009; PackageReference: U8+1; PackageDescription: 8-Pin Micro-MAX, Thin Shrink Small-Outline (U8+1), Body 3 x 3 mm, Pitch 0.65 mm; Supplier 1: Digi-Key; Supplier Part Number 1: MAX4210DEUA+-ND; Supplier 2: Mouser; Supplier Part Number 2: 700-MAX4210DEUA; RoHS: Pb-Free; Mounting Technology: Surface Mount; Code_JEDEC: MO-187; ComponentLink1Description: Manufacturer URL; ComponentLink1URL: http://www.maximintegrated.com/; ComponentLink2Description: Datasheet; ComponentLink2URL: http://datasheets.maximintegrated.com/en/ds/MAX4210-MAX4211.pdf; ComponentLink3Description: Package Specification; ComponentLink3URL: http://pdfserv.maximintegrated.com/package_dwgs/21-0036.PDF
footprint MAXM-U8+1_N (SOP, 8-Leads, Body 3x3mm, Pitch 0.65mm, IPC Medium Density)
footprint MAXM-U8+1_L (SOP, 8-Leads, Body 3x3mm, Pitch 0.65mm, IPC High Density)
footprint MAXM-U8+1_M (SOP, 8-Leads, Body 3x3mm, Pitch 0.65mm, IPC Low Density)
pins: 1 GND (power) "Ground", 2 IN (in) "Multiplier Input Voltage. Voltage input for internal multiplier.", 3 NC "No Connection. Not internally connected.", 4 VCC (power) "Power-Supply Voltage. Connect a 0.1uF bypass capacitor from VCC to GND.", 5 RS+ (in) "Power Connection to External-Sense Resistor", 6 NC "No Connection. Not internally connected.", 7 RS- (in) "Load-Side Connection for External-Sense Resistor", 8 POUT (out) "Power Output Voltage. Voltage output proportional to source power (input voltage multiplied by load current)."

## MAX4210DEUA+T
designator U?
High-Side, Power + Current Monitor, 16.67 V / V Gain, -40 to 85 degC, 8-Pin SOP (U8+1), Pb-Free, Tape and Reel; Generic Part Number: MAX4210; PartNumber: MAX4210DEUA+T; Bi-Dir. Curr. Sense: No; Gain: 16.67 V/V, 25 V/V ,40.96 V/V; DatasheetVersion: Rev. 1; PackageVersion: Rev. L, 08/2009; PackageReference: U8+1; PackageDescription: 8-Pin Micro-MAX, Thin Shrink Small-Outline (U8+1), Body 3 x 3 mm, Pitch 0.65 mm; Supplier 1: Digi-Key; Supplier Part Number 1: MAX4210DEUA+T-ND; Supplier 2: Mouser; Supplier Part Number 2: 700-MAX4210DEUAT; Packing: Tape and Reel; RoHS: Pb-Free; Mounting Technology: Surface Mount; Code_JEDEC: MO-187; ComponentLink1Description: Manufacturer URL; ComponentLink1URL: http://www.maximintegrated.com/; ComponentLink2Description: Datasheet; ComponentLink2URL: http://datasheets.maximintegrated.com/en/ds/MAX4210-MAX4211.pdf; ComponentLink3Description: Package Specification; ComponentLink3URL: http://pdfserv.maximintegrated.com/package_dwgs/21-0036.PDF
footprint MAXM-U8+1_N (SOP, 8-Leads, Body 3x3mm, Pitch 0.65mm, IPC Medium Density)
footprint MAXM-U8+1_L (SOP, 8-Leads, Body 3x3mm, Pitch 0.65mm, IPC High Density)
footprint MAXM-U8+1_M (SOP, 8-Leads, Body 3x3mm, Pitch 0.65mm, IPC Low Density)
pins: 1 GND (power) "Ground", 2 IN (in) "Multiplier Input Voltage. Voltage input for internal multiplier.", 3 NC "No Connection. Not internally connected.", 4 VCC (power) "Power-Supply Voltage. Connect a 0.1uF bypass capacitor from VCC to GND.", 5 RS+ (in) "Power Connection to External-Sense Resistor", 6 NC "No Connection. Not internally connected.", 7 RS- (in) "Load-Side Connection for External-Sense Resistor", 8 POUT (out) "Power Output Voltage. Voltage output proportional to source power (input voltage multiplied by load current)."

## MAX4210DEUA-T
designator U?
High-Side, Power + Current Monitor, 16.67 V / V Gain, -40 to 85 degC, 8-Pin SOP (U8-1), Tape and Reel; Generic Part Number: MAX4210; PartNumber: MAX4210DEUA-T; Bi-Dir. Curr. Sense: No; Gain: 16.67 V/V, 25 V/V ,40.96 V/V; DatasheetVersion: Rev. 1; PackageVersion: Rev. L, 08/2009; PackageReference: U8-1; PackageDescription: 8-Pin Micro-MAX, Thin Shrink Small-Outline (U8-1), Body 3 x 3 mm, Pitch 0.65mm; Supplier 1: Digi-Key; Supplier Part Number 1: MAX4210DEUA-T-ND; Supplier 2: Mouser; Supplier Part Number 2: 700-MAX4210DEUA-T-NR; Packing: Tape and Reel; Mounting Technology: Surface Mount; Code_JEDEC: MO-187; ComponentLink1Description: Manufacturer URL; ComponentLink1URL: http://www.maximintegrated.com/; ComponentLink2Description: Datasheet; ComponentLink2URL: http://datasheets.maximintegrated.com/en/ds/MAX4210-MAX4211.pdf; ComponentLink3Description: Package Specification; ComponentLink3URL: http://pdfserv.maximintegrated.com/package_dwgs/21-0036.PDF
footprint MAXM-U8-1_N (SOP, 8-Leads, Body 3x3mm, Pitch 0.65mm, IPC Medium Density)
footprint MAXM-U8-1_L (SOP, 8-Leads, Body 3x3mm, Pitch 0.65mm, IPC High Density)
footprint MAXM-U8-1_M (SOP, 8-Leads, Body 3x3mm, Pitch 0.65mm, IPC Low Density)
pins: 1 GND (power) "Ground", 2 IN (in) "Multiplier Input Voltage. Voltage input for internal multiplier.", 3 NC "No Connection. Not internally connected.", 4 VCC (power) "Power-Supply Voltage. Connect a 0.1uF bypass capacitor from VCC to GND.", 5 RS+ (in) "Power Connection to External-Sense Resistor", 6 NC "No Connection. Not internally connected.", 7 RS- (in) "Load-Side Connection for External-Sense Resistor", 8 POUT (out) "Power Output Voltage. Voltage output proportional to source power (input voltage multiplied by load current)."

## MAX4210EETT+T
designator U?
High-Side, Power + Current Monitor, 25 V / V Gain, -40 to 85 degC, 6-Pin SON (T633+2), Pb-Free, Tape and Reel; Generic Part Number: MAX4210; PartNumber: MAX4210EETT+T; Bi-Dir. Curr. Sense: No; Gain: 16.67 V/V, 25 V/V ,40.96 V/V; DatasheetVersion: Rev. 1; PackageVersion: Rev. J, 08/2009; PackageReference: T633+2; PackageDescription: 6-Pin Plastic Very Very Thin Dual Flatpack No Leads, Exposed Pad, Body 3 x 3 mm, Exposed Pad 2.3 x 1.5 mm, Pitch 0.95 mm; Supplier 1: Digi-Key; Supplier Part Number 1: MAX4210EETT+T-ND; Supplier 2: Mouser; Supplier Part Number 2: 700-MAX4210EETTT; Packing: Tape and Reel; RoHS: Pb-Free; Mounting Technology: Surface Mount; Code_JEDEC: MO-229; ComponentLink1Description: Manufacturer URL; ComponentLink1URL: http://www.maximintegrated.com/; ComponentLink2Description: Datasheet; ComponentLink2URL: http://datasheets.maximintegrated.com/en/ds/MAX4210-MAX4211.pdf; ComponentLink3Description: Package Specification; ComponentLink3URL: http://pdfserv.maximintegrated.com/package_dwgs/21-0137.PDF
footprint MAXM-T633+2_V (SON, 6-Leads, Body 3x3mm, Pitch 0.95mm, Thermal Pad 2.3X1.5mm)
pins: 1 GND (power) "Ground", 2 IN (in) "Multiplier Input Voltage. Voltage input for internal multiplier.", 3 VCC (power) "Power-Supply Voltage. Connect a 0.1uF bypass capacitor from VCC to GND.", 4 RS+ (in) "Power Connection to External-Sense Resistor", 5 RS- (in) "Load-Side Connection for External-Sense Resistor", 6 POUT (out) "Power Output Voltage. Voltage output proportional to source power (input voltage multiplied by load current).", 7 EP (power) "Exposed Paddle. EP is internally connected to GND."

## MAX4210EETT-T
designator U?
High-Side, Power + Current Monitor, 25 V / V Gain, -40 to 85 degC, 6-Pin SON (T633-2), Tape and Reel; Generic Part Number: MAX4210; PartNumber: MAX4210EETT-T; Bi-Dir. Curr. Sense: No; Gain: 16.67 V/V, 25 V/V ,40.96 V/V; DatasheetVersion: Rev. 1; PackageVersion: Rev. J, 08/2009; PackageReference: T633-2; PackageDescription: 6-Pin Plastic Very Very Thin Dual Flatpack No Leads, Exposed Pad, Body 3 x 3 mm, Exposed Pad 2.3 x 1.5 mm, Pitch 0.95 mm; Supplier 1: Mouser; Supplier Part Number 1: N/A; Packing: Tape and Reel; Mounting Technology: Surface Mount; Code_JEDEC: MO-229; ComponentLink1Description: Manufacturer URL; ComponentLink1URL: http://www.maximintegrated.com/; ComponentLink2Description: Datasheet; ComponentLink2URL: http://datasheets.maximintegrated.com/en/ds/MAX4210-MAX4211.pdf; ComponentLink3Description: Package Specification; ComponentLink3URL: http://pdfserv.maximintegrated.com/package_dwgs/21-0137.PDF
footprint MAXM-T633-2_V (SON, 6-Leads, Body 3x3mm, Pitch 0.95mm, Thermal Pad 1.5x2.3mm)
pins: 1 GND (power) "Ground", 2 IN (in) "Multiplier Input Voltage. Voltage input for internal multiplier.", 3 VCC (power) "Power-Supply Voltage. Connect a 0.1uF bypass capacitor from VCC to GND.", 4 RS+ (in) "Power Connection to External-Sense Resistor", 5 RS- (in) "Load-Side Connection for External-Sense Resistor", 6 POUT (out) "Power Output Voltage. Voltage output proportional to source power (input voltage multiplied by load current).", 7 EP (power) "Exposed Paddle. EP is internally connected to GND."

## MAX4210EEUA
designator U?
High-Side, Power + Current Monitor, 25 V / V Gain, -40 to 85 degC, 8-Pin SOP (U8-1); Generic Part Number: MAX4210; PartNumber: MAX4210EEUA; Bi-Dir. Curr. Sense: No; Gain: 16.67 V/V, 25 V/V ,40.96 V/V; DatasheetVersion: Rev. 1; PackageVersion: Rev. L, 08/2009; PackageReference: U8-1; PackageDescription: 8-Pin Micro-MAX, Thin Shrink Small-Outline (U8-1), Body 3 x 3 mm, Pitch 0.65mm; Supplier 1: Digi-Key; Supplier Part Number 1: MAX4210EEUA-ND; Supplier 2: Mouser; Supplier Part Number 2: 700-MAX4210EEUA-NR; Mounting Technology: Surface Mount; Code_JEDEC: MO-187; ComponentLink1Description: Manufacturer URL; ComponentLink1URL: http://www.maximintegrated.com/; ComponentLink2Description: Datasheet; ComponentLink2URL: http://datasheets.maximintegrated.com/en/ds/MAX4210-MAX4211.pdf; ComponentLink3Description: Package Specification; ComponentLink3URL: http://pdfserv.maximintegrated.com/package_dwgs/21-0036.PDF
footprint MAXM-U8-1_N (SOP, 8-Leads, Body 3x3mm, Pitch 0.65mm, IPC Medium Density)
footprint MAXM-U8-1_L (SOP, 8-Leads, Body 3x3mm, Pitch 0.65mm, IPC High Density)
footprint MAXM-U8-1_M (SOP, 8-Leads, Body 3x3mm, Pitch 0.65mm, IPC Low Density)
pins: 1 GND (power) "Ground", 2 IN (in) "Multiplier Input Voltage. Voltage input for internal multiplier.", 3 NC "No Connection. Not internally connected.", 4 VCC (power) "Power-Supply Voltage. Connect a 0.1uF bypass capacitor from VCC to GND.", 5 RS+ (in) "Power Connection to External-Sense Resistor", 6 NC "No Connection. Not internally connected.", 7 RS- (in) "Load-Side Connection for External-Sense Resistor", 8 POUT (out) "Power Output Voltage. Voltage output proportional to source power (input voltage multiplied by load current)."

## MAX4210EEUA+
designator U?
High-Side, Power + Current Monitor, 25 V / V Gain, -40 to 85 degC, 8-Pin SOP (U8+1), Pb-Free; Generic Part Number: MAX4210; PartNumber: MAX4210EEUA+; Bi-Dir. Curr. Sense: No; Gain: 16.67 V/V, 25 V/V ,40.96 V/V; DatasheetVersion: Rev. 1; PackageVersion: Rev. L, 08/2009; PackageReference: U8+1; PackageDescription: 8-Pin Micro-MAX, Thin Shrink Small-Outline (U8+1), Body 3 x 3 mm, Pitch 0.65 mm; Supplier 1: Digi-Key; Supplier Part Number 1: MAX4210EEUA+-ND; Supplier 2: Mouser; Supplier Part Number 2: 700-MAX4210EEUA; RoHS: Pb-Free; Mounting Technology: Surface Mount; Code_JEDEC: MO-187; ComponentLink1Description: Manufacturer URL; ComponentLink1URL: http://www.maximintegrated.com/; ComponentLink2Description: Datasheet; ComponentLink2URL: http://datasheets.maximintegrated.com/en/ds/MAX4210-MAX4211.pdf; ComponentLink3Description: Package Specification; ComponentLink3URL: http://pdfserv.maximintegrated.com/package_dwgs/21-0036.PDF
footprint MAXM-U8+1_N (SOP, 8-Leads, Body 3x3mm, Pitch 0.65mm, IPC Medium Density)
footprint MAXM-U8+1_L (SOP, 8-Leads, Body 3x3mm, Pitch 0.65mm, IPC High Density)
footprint MAXM-U8+1_M (SOP, 8-Leads, Body 3x3mm, Pitch 0.65mm, IPC Low Density)
pins: 1 GND (power) "Ground", 2 IN (in) "Multiplier Input Voltage. Voltage input for internal multiplier.", 3 NC "No Connection. Not internally connected.", 4 VCC (power) "Power-Supply Voltage. Connect a 0.1uF bypass capacitor from VCC to GND.", 5 RS+ (in) "Power Connection to External-Sense Resistor", 6 NC "No Connection. Not internally connected.", 7 RS- (in) "Load-Side Connection for External-Sense Resistor", 8 POUT (out) "Power Output Voltage. Voltage output proportional to source power (input voltage multiplied by load current)."

## MAX4210EEUA+T
designator U?
High-Side, Power + Current Monitor, 25 V / V Gain, -40 to 85 degC, 8-Pin SOP (U8+1), Pb-Free, Tape and Reel; Generic Part Number: MAX4210; PartNumber: MAX4210EEUA+T; Bi-Dir. Curr. Sense: No; Gain: 16.67 V/V, 25 V/V ,40.96 V/V; DatasheetVersion: Rev. 1; PackageVersion: Rev. L, 08/2009; PackageReference: U8+1; PackageDescription: 8-Pin Micro-MAX, Thin Shrink Small-Outline (U8+1), Body 3 x 3 mm, Pitch 0.65 mm; Supplier 1: Digi-Key; Supplier Part Number 1: MAX4210EEUA+T-ND; Supplier 2: Mouser; Supplier Part Number 2: 700-MAX4210EEUAT; Packing: Tape and Reel; RoHS: Pb-Free; Mounting Technology: Surface Mount; Code_JEDEC: MO-187; ComponentLink1Description: Manufacturer URL; ComponentLink1URL: http://www.maximintegrated.com/; ComponentLink2Description: Datasheet; ComponentLink2URL: http://datasheets.maximintegrated.com/en/ds/MAX4210-MAX4211.pdf; ComponentLink3Description: Package Specification; ComponentLink3URL: http://pdfserv.maximintegrated.com/package_dwgs/21-0036.PDF
footprint MAXM-U8+1_N (SOP, 8-Leads, Body 3x3mm, Pitch 0.65mm, IPC Medium Density)
footprint MAXM-U8+1_L (SOP, 8-Leads, Body 3x3mm, Pitch 0.65mm, IPC High Density)
footprint MAXM-U8+1_M (SOP, 8-Leads, Body 3x3mm, Pitch 0.65mm, IPC Low Density)
pins: 1 GND (power) "Ground", 2 IN (in) "Multiplier Input Voltage. Voltage input for internal multiplier.", 3 NC "No Connection. Not internally connected.", 4 VCC (power) "Power-Supply Voltage. Connect a 0.1uF bypass capacitor from VCC to GND.", 5 RS+ (in) "Power Connection to External-Sense Resistor", 6 NC "No Connection. Not internally connected.", 7 RS- (in) "Load-Side Connection for External-Sense Resistor", 8 POUT (out) "Power Output Voltage. Voltage output proportional to source power (input voltage multiplied by load current)."